# EAGLE library part STM32F401CCU-STD (library stm32f401ccu)
Blackpill STM32F401CCU Author: Andriansah, andriansah@yahoo.com Created: Jan 2023 Jatinangor Instruments
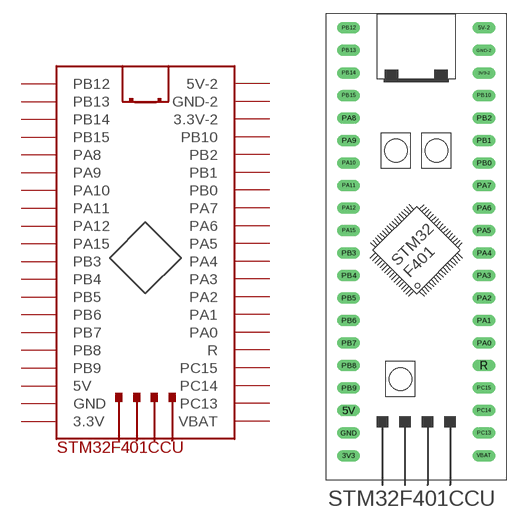
[diagram p0: symbol with the pads of STM32F401CCU-STD; footprint STM32F401CCU-STD]

Designator prefix -

## STM32F401CCU-STD  [STM32F401CCU-STD]
3V3  3.3V  pwr
3V3-2  3.3V-2  pwr
5V  5V  pwr
5V-2  5V-2  pwr
GND  GND  pwr
GND-2  GND-2  pwr
PA0  PA0
PA1  PA1
PA2  PA2
PA3  PA3
PA4  PA4
PA5  PA5
PA6  PA6
PA7  PA7
PA8  PA8
PA9  PA9
PA10  PA10
PA11  PA11
PA12  PA12
PA15  PA15
PB0  PB0
PB1  PB1
PB2  PB2
PB3  PB3
PB4  PB4
PB5  PB5
PB6  PB6
PB7  PB7
PB8  PB8
PB9  PB9
PB10  PB10
PB12  PB12
PB13  PB13
PB14  PB14
PB15  PB15
PC13  PC13
PC14  PC14
PC15  PC15
R  R
VBAT  VBAT

## Footprint STM32F401CCU-STD (pad centres in mm)
Blackpill STM32F401CCU Author: Andriansah, andriansah@yahoo.com Created: Jan 2023 Jatinangor Instruments
drill 0.8 long: 3V3 -7.62,-30.48; 3V3-2 7.62,12.7; 5V -7.62,-25.4; 5V-2 7.62,17.78; GND -7.62,-27.94; GND-2 7.62,15.24; PA0 7.62,-17.78; PA1 7.62,-15.24; PA2 7.62,-12.7; PA3 7.62,-10.16; PA4 7.62,-7.62; PA5 7.62,-5.08; PA6 7.62,-2.54; PA7 7.62,0; PA8 -7.62,7.62; PA9 -7.62,5.08; PA10 -7.62,2.54; PA11 -7.62,0; PA12 -7.62,-2.54; PA15 -7.62,-5.08; PB0 7.62,2.54; PB1 7.62,5.08; PB2 7.62,7.62; PB3 -7.62,-7.62; PB4 -7.62,-10.16; PB5 -7.62,-12.7; PB6 -7.62,-15.24; PB7 -7.62,-17.78; PB8 -7.62,-20.32; PB9 -7.62,-22.86; PB10 7.62,10.16; PB12 -7.62,17.78; PB13 -7.62,15.24; PB14 -7.62,12.7; PB15 -7.62,10.16; PC13 7.62,-27.94; PC14 7.62,-25.4; PC15 7.62,-22.86; R 7.62,-20.32; VBAT 7.62,-30.48